# EAGLE library part AD57 (library isystems)
AD5724/AD5734/AD5754 Complete, Quad, 12-/14-/16-Bit, Serial Input, Unipolar/Bipolar Voltage Output DACs FEATURES: Complete, quad, 12-/14-/16-bit digital-to-analog converter (DAC) Operates from single/dual supplies Software programmable output range +5 V, +10 V, +10.8 V, ±5 V, ±10 V, ±10.8 V INL error: ±16 LSB maximum, DNL error: ±1 LSB maximum Total unadjusted error (TUE): 0.1% FSR maximum Settling time: 10 μs typical Integrated reference buffers Output control during power-up/brownout Simultaneous updating via LDAC Asynchronous CLR to zero scale or midscale DSP-/microcontroller-compatible serial interface 24-lead TSSOP Operating temperature range: −40°C to +85°C iCMOS process technology APPLICATIONS Industrial automation Closed-loop servo control, process control Automotive test and measurement Programmable logic controllers AD5724R Product Page <http://www.analog.com/en/products/digital-to-analog-converters/da-converters/ad5724r.html> AD5724/AD5734/AD5754 Datasheet <http://www.analog.com/media/en/technical-documentation/data-sheets/AD5724R_5734R_5754R.pdf>
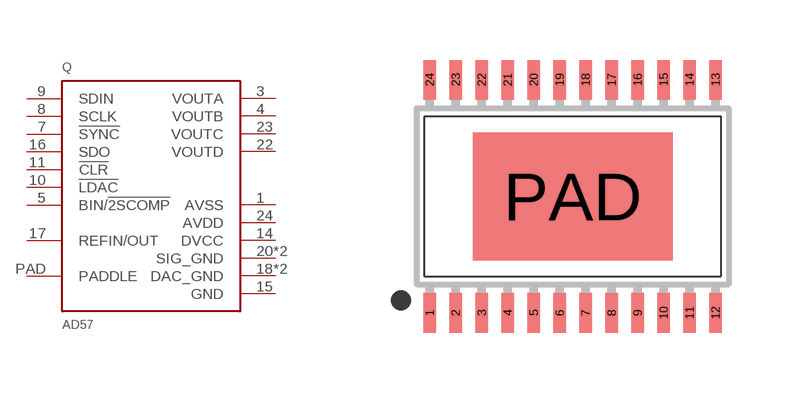
[diagram p49: symbol with the pads of TSSOP24-PAD; footprint TSSOP24-PAD]

Designator prefix Q

## AD5724 (RESOLUTION: 12 Bit)  [TSSOP24-PAD]
1  AVSS  pwr
3  VOUTA  out
4  VOUTB  out
5  BIN/!2SCOMP  in
7  !SYNC  in
8  SCLK  in
9  SDIN  in
10  !LDAC  in
11  !CLR  in
14  DVCC  pwr
15  GND  pwr
16  SDO  out
17  REFIN/OUT
18  DAC_GND  pwr
19  DAC_GND  pwr
20  SIG_GND  pwr
21  SIG_GND  pwr
22  VOUTD  out
23  VOUTC  out
24  AVDD  pwr
PAD  PADDLE

## AD5734 (RESOLUTION: 14 Bit)  [TSSOP24-PAD]
Pads as for TSSOP24-PAD

## AD5754 (RESOLUTION: 16 Bit)  [TSSOP24-PAD]
Pads as for TSSOP24-PAD

## Footprint TSSOP24-PAD (pad centres in mm)
Thin Shrink Small Outline Plastic 24 with Thermal PAD Designed for Analog AD5724/AD5734/AD5754 JEDEC MO-153-ADT PAD Size may differ for other manufactures
smd 0.305 x 0.991: 1 -3.575,-2.918; 2 -2.925,-2.918; 3 -2.275,-2.918; 4 -1.625,-2.918; 5 -0.975,-2.918; 6 -0.325,-2.918; 7 0.325,-2.918; 8 0.975,-2.918; 9 1.625,-2.918; 10 2.275,-2.918; 11 2.925,-2.918; 12 3.575,-2.918; 13 3.575,2.918; 14 2.925,2.918; 15 2.275,2.918; 16 1.625,2.918; 17 0.975,2.918; 18 0.325,2.918; 19 -0.325,2.918; 20 -0.975,2.918; 21 -1.625,2.918; 22 -2.275,2.918; 23 -2.925,2.918; 24 -3.575,2.918
smd 5 x 3.2: PAD 0,0